# EAGLE library part --MERGED_IRF7307 (library proxmark3_exported_and_modified_components)
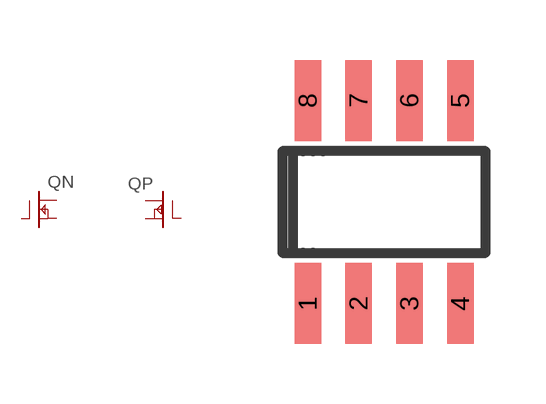
[diagram p6: symbol with the pads of --MERGED_SOIC-8; footprint --MERGED_SOIC-8]

Designator prefix Q; gates N=--MERGED_NFET P=--MERGED_PFET

## --MERGED_IRF7307  [--MERGED_SOIC-8]
1  N:S  pas
2  N:G  pas
3  P:S  pas
4  P:G  pas
6  P:D  pas
8  N:D  pas

## Footprint --MERGED_SOIC-8 (pad centres in mm)
smd 0.66 x 2.032: 1 0,0; 2 1.27,0; 3 2.54,0; 4 3.81,0; 5 3.81,5.08; 6 2.54,5.08; 7 1.27,5.08; 8 0,5.08